# Altium schematic symbol library SMD Voltage Reference and Regulators.SchLib: 94 symbols
Pins are listed as number, name and electrical type; pins without a type are passive.

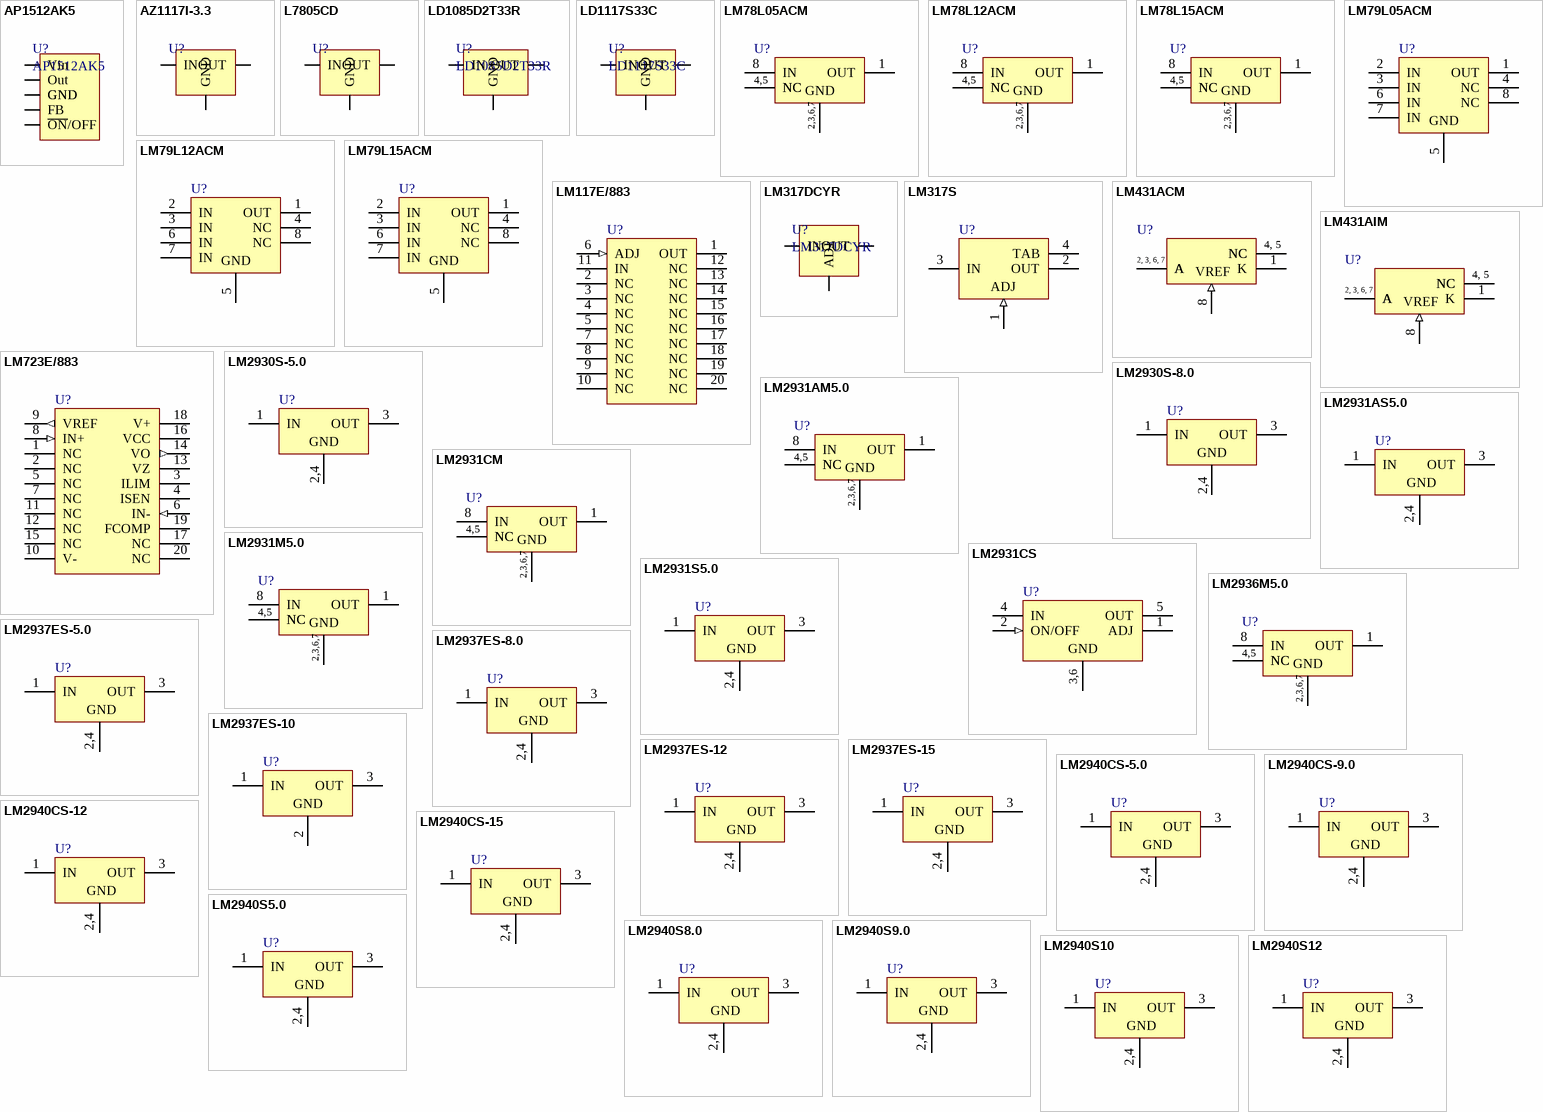
[diagram p0: symbols AP1512AK5 to LM2940S12]

## AP1512AK5
designator U?
3A, Step-Down SMPS Controller, Diodes
footprint TO263-5L (D2-PAK, 6-Pads, Body 9,6x10,5mm (max), IPC High Density)
pins: 1 Vin, 2 Out, 3 GND, 4 FB, 5 ~{ON}/OFF, 6 GND

## AZ1117I-3.3
designator U?
1.35A, 3.3V LDO Voltage Regulator
footprint SOT-223 (SOT-223/SC-73; 4 Leads; Body 6.7 x 7.3 mm, inc. leads (LxW max))
pins: 1 GND, 2 OUT, 3 IN

## L7805CD
designator U?
1.35A, 3.3V LDO Voltage Regulator
footprint DPAK-2 (DPAK 3 Leads (1 Cropped); Body 10.4 (inc. leads) x 6.7 mm (LxW max))
pins: 1 IN, 2 GND, 3 OUT

## LD1085D2T33R
designator U?
3A 3.3V LDO Voltage Regulator
footprint D2PAK (D2-PAK/TO-263-AB; 3 Leads (1 Cropped); Body 15.9 (inc. leads) x 10.4 mm (LxW max))
pins: 1 GND, 3 IN, 4 OUT

## LD1117S33C
designator U?
0.8A, 3.3V LDO Voltage Regulator
footprint SOT-223 (SOT-223/SC-73; 4 Leads; Body 6.7 x 7.3 mm, inc. leads (LxW max))
pins: 1 GND, 2 OUT, 3 IN, 4 OUT

## LM78L05ACM
designator U?
3-Terminal Positive Regulator; Manufacturer: National Semiconductor; Class: Power Management; SubClass: Voltage Regulator; Published: 15/04/2002; Publisher: Altium Hobart Technology Centre
footprint SO-G8
pins: 1 OUT (power), 2 GND (power), 3 GND (power), 4 NC, 5 NC, 6 GND (power), 7 GND (power), 8 IN (power)
text: 4,5; 2,3,6,7

## LM78L12ACM
designator U?
3-Terminal Positive Regulator; Manufacturer: National Semiconductor; Class: Power Management; SubClass: Voltage Regulator; Published: 15/04/2002; Publisher: Altium Hobart Technology Centre
footprint SO-G8
pins: 1 OUT (power), 2 GND (power), 3 GND (power), 4 NC, 5 NC, 6 GND (power), 7 GND (power), 8 IN (power)
text: 4,5; 2,3,6,7

## LM78L15ACM
designator U?
3-Terminal Positive Regulator; Manufacturer: National Semiconductor; Class: Power Management; SubClass: Voltage Regulator; Published: 15/04/2002; Publisher: Altium Hobart Technology Centre
footprint SO-G8
pins: 1 OUT (power), 2 GND (power), 3 GND (power), 4 NC, 5 NC, 6 GND (power), 7 GND (power), 8 IN (power)
text: 4,5; 2,3,6,7

## LM79L05ACM
designator U?
3-Terminal Negative Regulator; Manufacturer: National Semiconductor; Class: Power Management; SubClass: Voltage Regulator; Published: 15/04/2002; Publisher: Altium Hobart Technology Centre
footprint SO-G8
pins: 1 OUT (power), 2 IN (power), 3 IN (power), 4 NC, 5 GND (power), 6 IN (power), 7 IN (power), 8 NC

## LM79L12ACM
designator U?
3-Terminal Negative Regulator; Manufacturer: National Semiconductor; Class: Power Management; SubClass: Voltage Regulator; Published: 15/04/2002; Publisher: Altium Hobart Technology Centre
footprint SO-G8
pins: 1 OUT (power), 2 IN (power), 3 IN (power), 4 NC, 5 GND (power), 6 IN (power), 7 IN (power), 8 NC

## LM79L15ACM
designator U?
3-Terminal Negative Regulator; Manufacturer: National Semiconductor; Class: Power Management; SubClass: Voltage Regulator; Published: 15/04/2002; Publisher: Altium Hobart Technology Centre
footprint SO-G8
pins: 1 OUT (power), 2 IN (power), 3 IN (power), 4 NC, 5 GND (power), 6 IN (power), 7 IN (power), 8 NC

## LM117E/883
designator U?
3-Terminal Adjustable Regulator; Manufacturer: National Semiconductor; Class: Power Management; SubClass: Voltage Regulator; Published: 15/04/2002; Publisher: Altium Hobart Technology Centre
footprint QCC-N20/X.45
pins: 1 OUT (power), 2 NC, 3 NC, 4 NC, 5 NC, 6 ADJ (in), 7 NC, 8 NC, 9 NC, 10 NC, 11 IN (power), 12 NC, 13 NC, 14 NC, 15 NC, 16 NC, 17 NC, 18 NC, 19 NC, 20 NC

## LM317DCYR
designator U?
1.5A, 3-Terminal Adjustable Voltage Regulator, Texas Instruments
footprint SOT-223 (SOT-223/SC-73; 4 Leads; Body 6.7 x 7.3 mm, inc. leads (LxW max))
pins: 1 ADJ, 2 OUT, 3 IN, 4 OUT

## LM317S
designator U?
3-Terminal Adjustable Regulator; Manufacturer: National Semiconductor; Class: Power Management; SubClass: Voltage Regulator; Note: Tab is Output.; Published: 15/04/2002; Publisher: Altium Hobart Technology Centre
footprint SIP-G3/Y2.1
pins: 1 ADJ (in), 2 OUT (power), 3 IN (power), 4 TAB (power)

## LM431ACM
designator U?
Adjustable Precision Zener Shunt Regulator; Manufacturer: National Semiconductor; Class: Power Management; SubClass: Voltage Regulator; Published: 15/04/2002; Publisher: Altium Hobart Technology Centre
footprint SO-G8
pins: 1 K (power), 2 A (power), 3 A (power), 4 NC, 5 NC, 6 A (power), 7 A (power), 8 VREF (in)
text: 4, 5; 2, 3, 6, 7

## LM431AIM
designator U?
Adjustable Precision Zener Shunt Regulator; Manufacturer: National Semiconductor; Class: Power Management; SubClass: Voltage Regulator; Published: 15/04/2002; Publisher: Altium Hobart Technology Centre
footprint SO-G8
pins: 1 K (power), 2 A (power), 3 A (power), 4 NC, 5 NC, 6 A (power), 7 A (power), 8 VREF (in)
text: 4, 5; 2, 3, 6, 7

## LM723E/883
designator U?
Voltage Regulator; Manufacturer: National Semiconductor; Class: Power Management; Published: 15/04/2002; Publisher: Altium Hobart Technology Centre; SubClass: Voltage Regulator
footprint QCC-N20/X.45
pins: 1 NC, 2 NC, 3 ILIM, 4 ISEN, 5 NC, 6 IN- (in), 7 NC, 8 IN+ (in), 9 VREF (out), 10 V- (power), 11 NC, 12 NC, 13 VZ, 14 VO (out), 15 NC, 16 VCC (power), 17 NC, 18 V+ (power), 19 FCOMP, 20 NC

## LM2930S-5.0
designator U?
3-Terminal Positive Regulator; Manufacturer: National Semiconductor; Class: Power Management; SubClass: Voltage Regulator; Note: Tab is connected to GND; Published: 15/04/2002; Publisher: Altium Hobart Technology Centre
footprint SIP-G3/Y2.1
pins: 1 IN (power), 2 GND (power), 3 OUT (power), 4 GND (power)
text: 2,4

## LM2930S-8.0
designator U?
3-Terminal Positive Regulator; Manufacturer: National Semiconductor; Class: Power Management; SubClass: Voltage Regulator; Note: Tab is connected to GND; Published: 15/04/2002; Publisher: Altium Hobart Technology Centre
footprint SIP-G3/Y2.1
pins: 1 IN (power), 2 GND (power), 3 OUT (power), 4 GND (power)
text: 2,4

## LM2931AM5.0
designator U?
Series Low-Dropout Regulator; Manufacturer: National Semiconductor; Class: Power Management; SubClass: Voltage Regulator; Published: 15/04/2002; Publisher: Altium Hobart Technology Centre
footprint SO-G8
pins: 1 OUT (power), 2 GND (power), 3 GND (power), 4 NC, 5 NC, 6 GND (power), 7 GND (power), 8 IN (power)
text: 4,5; 2,3,6,7

## LM2931AS5.0
designator U?
Series Low-Dropout Regulator; Manufacturer: National Semiconductor; Class: Power Management; SubClass: Voltage Regulator; Note: Tab is GND; Published: 15/04/2002; Publisher: Altium Hobart Technology Centre
footprint SIP-G3/Y2.1
pins: 1 IN (power), 2 GND (power), 3 OUT (power), 4 GND (power)
text: 2,4

## LM2931CM
designator U?
Series Low-Dropout Regulator; Manufacturer: National Semiconductor; Class: Power Management; SubClass: Voltage Regulator; Published: 15/04/2002; Publisher: Altium Hobart Technology Centre
footprint SO-G8
pins: 1 OUT (power), 2 GND (power), 3 GND (power), 4 NC, 5 NC, 6 GND (power), 7 GND (power), 8 IN (power)
text: 4,5; 2,3,6,7

## LM2931CS
designator U?
Series Low-Dropout Regulator; Manufacturer: National Semiconductor; Class: Power Management; SubClass: Voltage Regulator; Note: Tab is GND; Published: 15/04/2002; Publisher: Altium Hobart Technology Centre
footprint SIP-G5/Y2.1
pins: 1 ADJ, 2 ON/OFF (in), 3 GND (power), 4 IN (power), 5 OUT (power), 6 GND (TAB) (power)
text: 3,6

## LM2931M5.0
designator U?
Series Low-Dropout Regulator; Manufacturer: National Semiconductor; Class: Power Management; SubClass: Voltage Regulator; Published: 15/04/2002; Publisher: Altium Hobart Technology Centre
footprint SO-G8
pins: 1 OUT (power), 2 GND (power), 3 GND (power), 4 NC, 5 NC, 6 GND (power), 7 GND (power), 8 IN (power)
text: 4,5; 2,3,6,7

## LM2931S5.0
designator U?
Series Low-Dropout Regulator; Manufacturer: National Semiconductor; Class: Power Management; SubClass: Voltage Regulator; Note: Tab is GND; Published: 15/04/2002; Publisher: Altium Hobart Technology Centre
footprint SIP-G3/Y2.1
pins: 1 IN (power), 2 GND (power), 3 OUT (power), 4 GND (power)
text: 2,4

## LM2936M5.0
designator U?
Ultra Low Quiescent Current 5V Regulator; Manufacturer: National Semiconductor; Class: Power Management; SubClass: Voltage Regulator; Published: 15/04/2002; Publisher: Altium Hobart Technology Centre
footprint SO-G8
pins: 1 OUT (power), 2 GND (power), 3 GND (power), 4 NC, 5 NC, 6 GND (power), 7 GND (power), 8 IN (power)
text: 4,5; 2,3,6,7

## LM2937ES-5.0
designator U?
500 mA Low-Dropout Regulator; Manufacturer: National Semiconductor; Class: Power Management; SubClass: Voltage Regulator; Note: Tab is GND; Published: 15/04/2002; Publisher: Altium Hobart Technology Centre
footprint SIP-G3/Y2.1
pins: 1 IN (power), 2 GND (power), 3 OUT (power), 4 GND (power)
text: 2,4

## LM2937ES-8.0
designator U?
500 mA Low-Dropout Regulator; Manufacturer: National Semiconductor; Class: Power Management; SubClass: Voltage Regulator; Note: Tab is GND; Published: 15/04/2002; Publisher: Altium Hobart Technology Centre
footprint SIP-G3/Y2.1
pins: 1 IN (power), 2 GND (power), 3 OUT (power), 4 GND (power)
text: 2,4

## LM2937ES-10
designator U?
500 mA Low-Dropout Regulator; Manufacturer: National Semiconductor; Class: Power Management; SubClass: Voltage Regulator; Note: Tab is connected to GND; Published: 15/04/2002; Publisher: Altium Hobart Technology Centre
footprint SIP-G3/Y2.1
pins: 1 IN (power), 2 GND (power), 3 OUT (power)

## LM2937ES-12
designator U?
500 mA Low-Dropout Regulator; Manufacturer: National Semiconductor; Class: Power Management; SubClass: Voltage Regulator; Note: Tab is GND; Published: 15/04/2002; Publisher: Altium Hobart Technology Centre
footprint SIP-G3/Y2.1
pins: 1 IN (power), 2 GND (power), 3 OUT (power), 4 GND (power)
text: 2,4

## LM2937ES-15
designator U?
500 mA Low-Dropout Regulator; Manufacturer: National Semiconductor; Class: Power Management; SubClass: Voltage Regulator; Note: Tab is GND; Published: 15/04/2002; Publisher: Altium Hobart Technology Centre
footprint SIP-G3/Y2.1
pins: 1 IN (power), 2 GND (power), 3 OUT (power), 4 GND (power)
text: 2,4

## LM2940CS-5.0
designator U?
1A Low-Dropout Regulator; Manufacturer: National Semiconductor; Class: Power Management; SubClass: Voltage Regulator; Note: Tab is GND; Published: 15/04/2002; Publisher: Altium Hobart Technology Centre
footprint SIP-G3/Y2.1
pins: 1 IN (power), 2 GND (power), 3 OUT (power), 4 GND (power)
text: 2,4

## LM2940CS-9.0
designator U?
1A Low-Dropout Regulator; Manufacturer: National Semiconductor; Class: Power Management; SubClass: Voltage Regulator; Note: Tab is GND; Published: 15/04/2002; Publisher: Altium Hobart Technology Centre
footprint SIP-G3/Y2.1
pins: 1 IN (power), 2 GND (power), 3 OUT (power), 4 GND (power)
text: 2,4

## LM2940CS-12
designator U?
1A Low-Dropout Regulator; Manufacturer: National Semiconductor; Class: Power Management; SubClass: Voltage Regulator; Note: Tab is GND; Published: 15/04/2002; Publisher: Altium Hobart Technology Centre
footprint SIP-G3/Y2.1
pins: 1 IN (power), 2 GND (power), 3 OUT (power), 4 GND (power)
text: 2,4

## LM2940CS-15
designator U?
1A Low-Dropout Regulator; Manufacturer: National Semiconductor; Class: Power Management; SubClass: Voltage Regulator; Note: Tab is GND; Published: 15/04/2002; Publisher: Altium Hobart Technology Centre
footprint SIP-G3/Y2.1
pins: 1 IN (power), 2 GND (power), 3 OUT (power), 4 GND (power)
text: 2,4

## LM2940S5.0
designator U?
1A Low-Dropout Regulator; Manufacturer: National Semiconductor; Class: Power Management; SubClass: Voltage Regulator; Note: Tab is GND; Published: 15/04/2002; Publisher: Altium Hobart Technology Centre
footprint SIP-G3/Y2.1
pins: 1 IN (power), 2 GND (power), 3 OUT (power), 4 GND (power)
text: 2,4

## LM2940S8.0
designator U?
1A Low-Dropout Regulator; Manufacturer: National Semiconductor; Class: Power Management; SubClass: Voltage Regulator; Note: Tab is GND; Published: 15/04/2002; Publisher: Altium Hobart Technology Centre
footprint SIP-G3/Y2.1
pins: 1 IN (power), 2 GND (power), 3 OUT (power), 4 GND (power)
text: 2,4

## LM2940S9.0
designator U?
1A Low-Dropout Regulator; Manufacturer: National Semiconductor; Class: Power Management; SubClass: Voltage Regulator; Note: Tab is GND; Published: 15/04/2002; Publisher: Altium Hobart Technology Centre
footprint SIP-G3/Y2.1
pins: 1 IN (power), 2 GND (power), 3 OUT (power), 4 GND (power)
text: 2,4

## LM2940S10
designator U?
1A Low-Dropout Regulator; Manufacturer: National Semiconductor; Class: Power Management; SubClass: Voltage Regulator; Note: Tab is GND; Published: 15/04/2002; Publisher: Altium Hobart Technology Centre
footprint SIP-G3/Y2.1
pins: 1 IN (power), 2 GND (power), 3 OUT (power), 4 GND (power)
text: 2,4

## LM2940S12
designator U?
1A Low-Dropout Regulator; Manufacturer: National Semiconductor; Class: Power Management; SubClass: Voltage Regulator; Note: Tab is GND; Published: 15/04/2002; Publisher: Altium Hobart Technology Centre
footprint SIP-G3/Y2.1
pins: 1 IN (power), 2 GND (power), 3 OUT (power), 4 GND (power)
text: 2,4

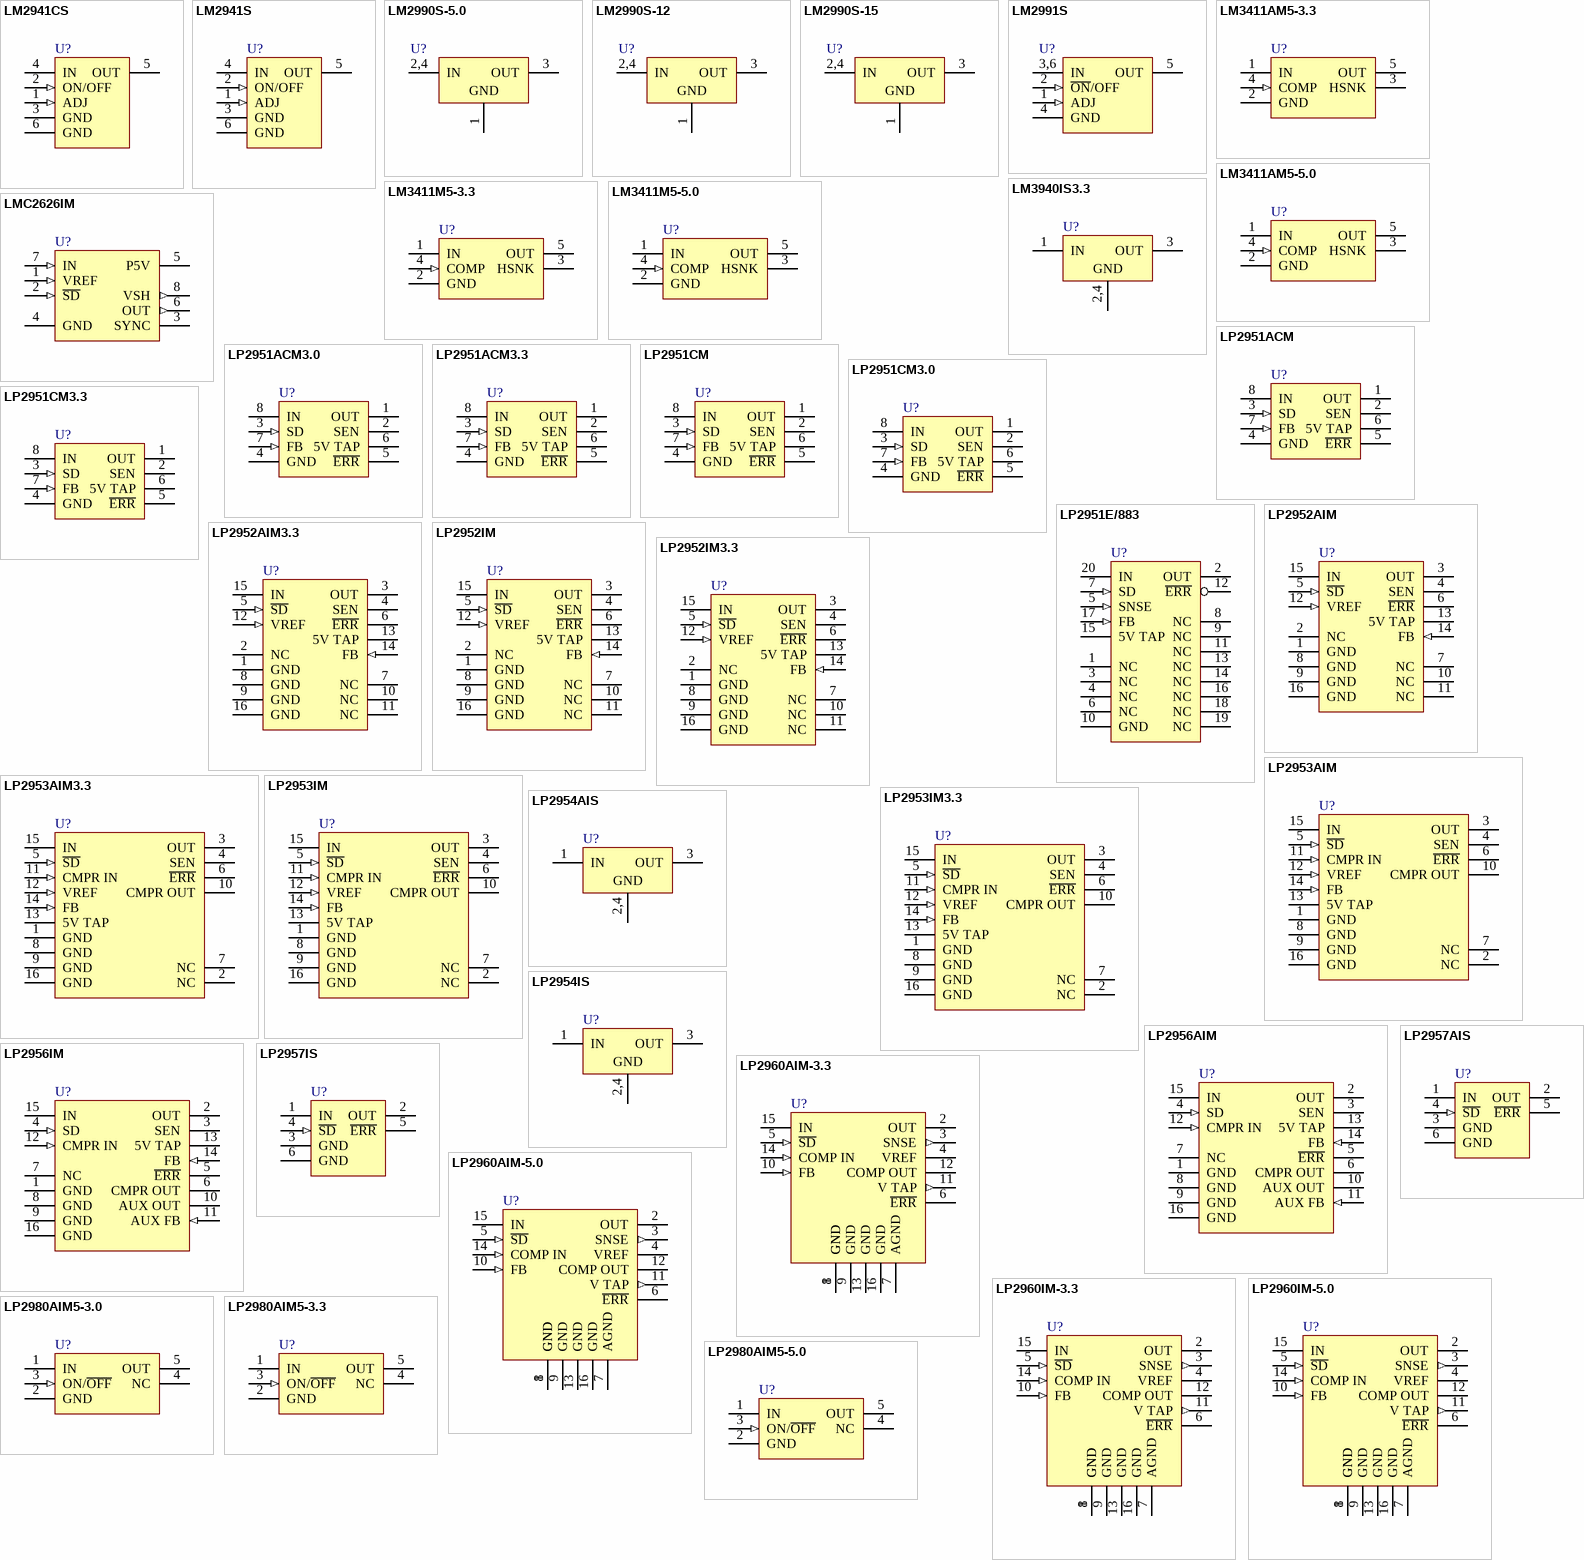
[diagram p1: symbols LM2941CS to LP2980AIM5-5.0]

## LM2941CS
designator U?
1A Dropout Adjustable Regulator; Manufacturer: National Semiconductor; Class: Power Management; SubClass: Voltage Regulator; Note: Tab is GND; Published: 15/04/2002; Publisher: Altium Hobart Technology Centre
footprint SIP-G5/Y2.1
pins: 1 ADJ (in), 2 ON/OFF (in), 3 GND (power), 4 IN (power), 5 OUT (power), 6 GND (power)

## LM2941S
designator U?
1A Dropout Adjustable Regulator; Manufacturer: National Semiconductor; Class: Power Management; SubClass: Voltage Regulator; Note: Tab is GND; Published: 15/04/2002; Publisher: Altium Hobart Technology Centre
footprint SIP-G5/Y2.1
pins: 1 ADJ (in), 2 ON/OFF (in), 3 GND (power), 4 IN (power), 5 OUT (power), 6 GND (power)

## LM2990S-5.0
designator U?
Negative Low-Dropout Regulator; Manufacturer: National Semiconductor; Class: Power Management; SubClass: Voltage Regulator; Note: Tab is Input; Published: 15/04/2002; Publisher: Altium Hobart Technology Centre
footprint SIP-G3/Y2.1
pins: 1 GND (power), 2 IN (power), 3 OUT (power), 4 IN (power)
text: 2,4

## LM2990S-12
designator U?
Negative Low-Dropout Regulator; Manufacturer: National Semiconductor; Class: Power Management; SubClass: Voltage Regulator; Note: Tab is Input; Published: 15/04/2002; Publisher: Altium Hobart Technology Centre
footprint SIP-G3/Y2.1
pins: 1 GND (power), 2 IN (power), 3 OUT (power), 4 IN (power)
text: 2,4

## LM2990S-15
designator U?
Negative Low-Dropout Regulator; Manufacturer: National Semiconductor; Class: Power Management; SubClass: Voltage Regulator; Note: Tab is Input; Published: 15/04/2002; Publisher: Altium Hobart Technology Centre
footprint SIP-G3/Y2.1
pins: 1 GND (power), 2 IN (power), 3 OUT (power), 4 IN (power)
text: 2,4

## LM2991S
designator U?
Negative Low-Dropout Adjustable Regulator; Manufacturer: National Semiconductor; Class: Power Management; SubClass: Voltage Regulator; Note: Tab is Input; Published: 15/04/2002; Publisher: Altium Hobart Technology Centre
footprint SIP-G5/Y2.1
pins: 1 ADJ (in), 2 ~{ON}/OFF (in), 3 IN (power), 4 GND (power), 5 OUT (power), 6 IN (power)
text: 3,6

## LM3411AM5-3.3
designator U?
Precision Secondary Regulator / Driver; Manufacturer: National Semiconductor; Class: Power Management; SubClass: Voltage Regulator; Note: Pin 3 NC, connect to board for heat transfer; Published: 15/04/2002; Publisher: Altium Hobart Technology Centre
footprint SO-G5/P.95
pins: 1 IN (power), 2 GND (power), 3 HSNK, 4 COMP (in), 5 OUT (power)

## LM3411AM5-5.0
designator U?
Precision Secondary Regulator / Driver; Manufacturer: National Semiconductor; Class: Power Management; SubClass: Voltage Regulator; Note: Pin 3 NC, connect to board for heat transfer; Published: 15/04/2002; Publisher: Altium Hobart Technology Centre
footprint SO-G5/P.95
pins: 1 IN (power), 2 GND (power), 3 HSNK, 4 COMP (in), 5 OUT (power)

## LM3411M5-3.3
designator U?
Precision Secondary Regulator / Driver; Manufacturer: National Semiconductor; Class: Power Management; SubClass: Voltage Regulator; Note: Pin 3 NC, connect to board for heat transfer; Published: 15/04/2002; Publisher: Altium Hobart Technology Centre
footprint SO-G5/P.95
pins: 1 IN (power), 2 GND (power), 3 HSNK, 4 COMP (in), 5 OUT (power)

## LM3411M5-5.0
designator U?
Precision Secondary Regulator / Driver; Manufacturer: National Semiconductor; Class: Power Management; SubClass: Voltage Regulator; Note: Pin 3 NC, connect to board for heat transfer; Published: 15/04/2002; Publisher: Altium Hobart Technology Centre
footprint SO-G5/P.95
pins: 1 IN (power), 2 GND (power), 3 HSNK, 4 COMP (in), 5 OUT (power)

## LM3940IS3.3
designator U?
1A Low-Dropout Regulator For 5V to 3.3V Conversion; Manufacturer: National Semiconductor; Class: Power Management; SubClass: Voltage Regulator; Note: Tab is GND; Published: 15/04/2002; Publisher: Altium Hobart Technology Centre
footprint SIP-G3/Y2.1
pins: 1 IN (power), 2 GND (power), 3 OUT (power), 4 GND (power)
text: 2,4

## LMC2626IM
designator U?
CMOS LDOR/Buffer Chip for Row Inversion Flat Panel Display Systems; Manufacturer: National Semiconductor; Class: Power Management; SubClass: Voltage Regulator; Published: 15/04/2002; Publisher: Altium Hobart Technology Centre
footprint SO-G8
pins: 1 VREF (in), 2 ~{SD} (in), 3 SYNC, 4 GND (power), 5 P5V (power), 6 OUT (out), 7 IN (in), 8 VSH (out)

## LP2951ACM
designator U?
Series of Adjustable Micropower Voltage Regulator; Manufacturer: National Semiconductor; Class: Power Management; Published: 15/04/2002; Publisher: Altium Hobart Technology Centre; SubClass: Voltage Regulator
footprint SO-G8
pins: 1 OUT (power), 2 SEN, 3 SD (in), 4 GND (power), 5 ~{ERR} (oc), 6 5V TAP, 7 FB (in), 8 IN (power)

## LP2951ACM3.0
designator U?
Series of Adjustable Micropower Voltage Regulator; Manufacturer: National Semiconductor; Class: Power Management; Published: 15/04/2002; Publisher: Altium Hobart Technology Centre; SubClass: Voltage Regulator
footprint SO-G8
pins: 1 OUT (power), 2 SEN, 3 SD (in), 4 GND (power), 5 ~{ERR} (oc), 6 5V TAP, 7 FB (in), 8 IN (power)

## LP2951ACM3.3
designator U?
Series of Adjustable Micropower Voltage Regulator; Manufacturer: National Semiconductor; Class: Power Management; Published: 15/04/2002; Publisher: Altium Hobart Technology Centre; SubClass: Voltage Regulator
footprint SO-G8
pins: 1 OUT (power), 2 SEN, 3 SD (in), 4 GND (power), 5 ~{ERR} (oc), 6 5V TAP, 7 FB (in), 8 IN (power)

## LP2951CM
designator U?
Series of Adjustable Micropower Voltage Regulator; Manufacturer: National Semiconductor; Class: Power Management; Published: 15/04/2002; Publisher: Altium Hobart Technology Centre; SubClass: Voltage Regulator
footprint SO-G8
pins: 1 OUT (power), 2 SEN, 3 SD (in), 4 GND (power), 5 ~{ERR} (oc), 6 5V TAP, 7 FB (in), 8 IN (power)

## LP2951CM3.0
designator U?
Series of Adjustable Micropower Voltage Regulator; Manufacturer: National Semiconductor; Class: Power Management; Published: 15/04/2002; Publisher: Altium Hobart Technology Centre; SubClass: Voltage Regulator
footprint SO-G8
pins: 1 OUT (power), 2 SEN, 3 SD (in), 4 GND (power), 5 ~{ERR} (oc), 6 5V TAP, 7 FB (in), 8 IN (power)

## LP2951CM3.3
designator U?
Series of Adjustable Micropower Voltage Regulator; Manufacturer: National Semiconductor; Class: Power Management; Published: 15/04/2002; Publisher: Altium Hobart Technology Centre; SubClass: Voltage Regulator
footprint SO-G8
pins: 1 OUT (power), 2 SEN, 3 SD (in), 4 GND (power), 5 ~{ERR} (oc), 6 5V TAP, 7 FB (in), 8 IN (power)

## LP2951E/883
designator U?
Series of Adjustable Micropower Voltage Regulator; Manufacturer: National Semiconductor; Class: Power Management; Published: 15/04/2002; Publisher: Altium Hobart Technology Centre; SubClass: Voltage Regulator
footprint QCC-N20/X.45
pins: 1 NC, 2 OUT (power), 3 NC, 4 NC, 5 SNSE (in), 6 NC, 7 SD (in), 8 NC, 9 NC, 10 GND (power), 11 NC, 12 ~{ERR} (oc), 13 NC, 14 NC, 15 5V TAP, 16 NC, 17 FB (in), 18 NC, 19 NC, 20 IN (power)

## LP2952AIM
designator U?
Adjustable Micropower Low-Dropout Voltage Regulator; Manufacturer: National Semiconductor; Class: Power Management; Published: 15/04/2002; Publisher: Altium Hobart Technology Centre; SubClass: Voltage Regulator
footprint SO-G16/E2
pins: 1 GND (power), 2 NC, 3 OUT (power), 4 SEN, 5 ~{SD} (in), 6 ~{ERR} (oc), 7 NC, 8 GND (power), 9 GND (power), 10 NC, 11 NC, 12 VREF (in), 13 5V TAP, 14 FB (in), 15 IN (power), 16 GND (power)

## LP2952AIM3.3
designator U?
Adjustable Micropower Low-Dropout Voltage Regulator; Manufacturer: National Semiconductor; Class: Power Management; Published: 15/04/2002; Publisher: Altium Hobart Technology Centre; SubClass: Voltage Regulator
footprint SO-G16/E2
pins: 1 GND (power), 2 NC, 3 OUT (power), 4 SEN, 5 ~{SD} (in), 6 ~{ERR} (oc), 7 NC, 8 GND (power), 9 GND (power), 10 NC, 11 NC, 12 VREF (in), 13 5V TAP, 14 FB (in), 15 IN (power), 16 GND (power)

## LP2952IM
designator U?
Adjustable Micropower Low-Dropout Voltage Regulator; Manufacturer: National Semiconductor; Class: Power Management; Published: 15/04/2002; Publisher: Altium Hobart Technology Centre; SubClass: Voltage Regulator
footprint SO-G16/E2
pins: 1 GND (power), 2 NC, 3 OUT (power), 4 SEN, 5 ~{SD} (in), 6 ~{ERR} (oc), 7 NC, 8 GND (power), 9 GND (power), 10 NC, 11 NC, 12 VREF (in), 13 5V TAP, 14 FB (in), 15 IN (power), 16 GND (power)

## LP2952IM3.3
designator U?
Adjustable Micropower Low-Dropout Voltage Regulator; Manufacturer: National Semiconductor; Class: Power Management; Published: 15/04/2002; Publisher: Altium Hobart Technology Centre; SubClass: Voltage Regulator
footprint SO-G16/E2
pins: 1 GND (power), 2 NC, 3 OUT (power), 4 SEN, 5 ~{SD} (in), 6 ~{ERR} (oc), 7 NC, 8 GND (power), 9 GND (power), 10 NC, 11 NC, 12 VREF (in), 13 5V TAP, 14 FB (in), 15 IN (power), 16 GND (power)

## LP2953AIM
designator U?
Adjustable Micropower Low-Dropout Voltage Regulator; Manufacturer: National Semiconductor; Class: Power Management; Published: 15/04/2002; Publisher: Altium Hobart Technology Centre; SubClass: Voltage Regulator
footprint SO-G16/E2
pins: 1 GND (power), 2 NC, 3 OUT (power), 4 SEN, 5 ~{SD} (in), 6 ~{ERR} (oc), 7 NC, 8 GND (power), 9 GND (power), 10 CMPR OUT (oc), 11 CMPR IN (in), 12 VREF (in), 13 5V TAP, 14 FB (in), 15 IN (power), 16 GND (power)

## LP2953AIM3.3
designator U?
Adjustable Micropower Low-Dropout Voltage Regulator; Manufacturer: National Semiconductor; Class: Power Management; Published: 15/04/2002; Publisher: Altium Hobart Technology Centre; SubClass: Voltage Regulator
footprint SO-G16/E2
pins: 1 GND (power), 2 NC, 3 OUT (power), 4 SEN, 5 ~{SD} (in), 6 ~{ERR} (oc), 7 NC, 8 GND (power), 9 GND (power), 10 CMPR OUT (oc), 11 CMPR IN (in), 12 VREF (in), 13 5V TAP, 14 FB (in), 15 IN (power), 16 GND (power)

## LP2953IM
designator U?
Adjustable Micropower Low-Dropout Voltage Regulator; Manufacturer: National Semiconductor; Class: Power Management; Published: 15/04/2002; Publisher: Altium Hobart Technology Centre; SubClass: Voltage Regulator
footprint SO-G16/E2
pins: 1 GND (power), 2 NC, 3 OUT (power), 4 SEN, 5 ~{SD} (in), 6 ~{ERR} (oc), 7 NC, 8 GND (power), 9 GND (power), 10 CMPR OUT (oc), 11 CMPR IN (in), 12 VREF (in), 13 5V TAP, 14 FB (in), 15 IN (power), 16 GND (power)

## LP2953IM3.3
designator U?
Adjustable Micropower Low-Dropout Voltage Regulator; Manufacturer: National Semiconductor; Class: Power Management; Published: 15/04/2002; Publisher: Altium Hobart Technology Centre; SubClass: Voltage Regulator
footprint SO-G16/E2
pins: 1 GND (power), 2 NC, 3 OUT (power), 4 SEN, 5 ~{SD} (in), 6 ~{ERR} (oc), 7 NC, 8 GND (power), 9 GND (power), 10 CMPR OUT (oc), 11 CMPR IN (in), 12 VREF (in), 13 5V TAP, 14 FB (in), 15 IN (power), 16 GND (power)

## LP2954AIS
designator U?
5V and Adjustable Micropower Low-Dropout Voltage Regulator; Manufacturer: National Semiconductor; Class: Power Management; Note: Tab is GND; Published: 15/04/2002; Publisher: Altium Hobart Technology Centre; SubClass: Voltage Regulator
footprint SIP-G3/Y2.1
pins: 1 IN (power), 2 GND (power), 3 OUT (power), 4 GND (power)
text: 2,4

## LP2954IS
designator U?
5V and Adjustable Micropower Low-Dropout Voltage Regulator; Manufacturer: National Semiconductor; Class: Power Management; Note: Tab is GND; Published: 15/04/2002; Publisher: Altium Hobart Technology Centre; SubClass: Voltage Regulator
footprint SIP-G3/Y2.1
pins: 1 IN (power), 2 GND (power), 3 OUT (power), 4 GND (power)
text: 2,4

## LP2956AIM
designator U?
Dual Micropower Low-Dropout Voltage Regulator; Manufacturer: National Semiconductor; Class: Power Management; Published: 15/04/2002; Publisher: Altium Hobart Technology Centre; SubClass: Voltage Regulator
footprint SO-G16/E2
pins: 1 GND (power), 2 OUT (power), 3 SEN, 4 SD (in), 5 ~{ERR} (oc), 6 CMPR OUT (oc), 7 NC, 8 GND (power), 9 GND (power), 10 AUX OUT (power), 11 AUX FB (in), 12 CMPR IN (in), 13 5V TAP, 14 FB (in), 15 IN (power), 16 GND (power)

## LP2956IM
designator U?
Dual Micropower Low-Dropout Voltage Regulator; Manufacturer: National Semiconductor; Class: Power Management; Published: 15/04/2002; Publisher: Altium Hobart Technology Centre; SubClass: Voltage Regulator
footprint SO-G16/E2
pins: 1 GND (power), 2 OUT (power), 3 SEN, 4 SD (in), 5 ~{ERR} (oc), 6 CMPR OUT (oc), 7 NC, 8 GND (power), 9 GND (power), 10 AUX OUT (power), 11 AUX FB (in), 12 CMPR IN (in), 13 5V TAP, 14 FB (in), 15 IN (power), 16 GND (power)

## LP2957AIS
designator U?
5V Low-Dropout Regulator for Microprocessor Application; Manufacturer: National Semiconductor; Class: Power Management; SubClass: Voltage Regulator; Note: Tab is GND; Published: 15/04/2002; Publisher: Altium Hobart Technology Centre
footprint SIP-G5/Y2.1
pins: 1 IN (power), 2 OUT (power), 3 GND (power), 4 ~{SD} (in), 5 ~{ERR} (oc), 6 GND (power)

## LP2957IS
designator U?
5V Low-Dropout Regulator for Microprocessor Application; Manufacturer: National Semiconductor; Class: Power Management; SubClass: Voltage Regulator; Note: Tab is GND; Published: 15/04/2002; Publisher: Altium Hobart Technology Centre
footprint SIP-G5/Y2.1
pins: 1 IN (power), 2 OUT (power), 3 GND (power), 4 ~{SD} (in), 5 ~{ERR} (oc), 6 GND (power)

## LP2960AIM-3.3
designator U?
Adjustable Micropower 0.5 Low-Dropout Regulator; Manufacturer: National Semiconductor; Class: Power Management; SubClass: Voltage Regulator; Published: 15/04/2002; Publisher: Altium Hobart Technology Centre
footprint SO-G16/E2
pins: 1 GND (power), 2 OUT (power), 3 SNSE (out), 4 VREF, 5 ~{SD} (in), 6 ~{ERR} (oc), 7 AGND (power), 8 GND (power), 9 GND (power), 10 FB (in), 11 V TAP (out), 12 COMP OUT (oc), 13 GND (power), 14 COMP IN (in), 15 IN (power), 16 GND (power)

## LP2960AIM-5.0
designator U?
Adjustable Micropower 0.5 Low-Dropout Regulator; Manufacturer: National Semiconductor; Class: Power Management; SubClass: Voltage Regulator; Published: 15/04/2002; Publisher: Altium Hobart Technology Centre
footprint SO-G16/E2
pins: 1 GND (power), 2 OUT (power), 3 SNSE (out), 4 VREF, 5 ~{SD} (in), 6 ~{ERR} (oc), 7 AGND (power), 8 GND (power), 9 GND (power), 10 FB (in), 11 V TAP (out), 12 COMP OUT (oc), 13 GND (power), 14 COMP IN (in), 15 IN (power), 16 GND (power)

## LP2960IM-3.3
designator U?
Adjustable Micropower 0.5 Low-Dropout Regulator; Manufacturer: National Semiconductor; Class: Power Management; SubClass: Voltage Regulator; Published: 15/04/2002; Publisher: Altium Hobart Technology Centre
footprint SO-G16/E2
pins: 1 GND (power), 2 OUT (power), 3 SNSE (out), 4 VREF, 5 ~{SD} (in), 6 ~{ERR} (oc), 7 AGND (power), 8 GND (power), 9 GND (power), 10 FB (in), 11 V TAP (out), 12 COMP OUT (oc), 13 GND (power), 14 COMP IN (in), 15 IN (power), 16 GND (power)

## LP2960IM-5.0
designator U?
Adjustable Micropower 0.5 Low-Dropout Regulator; Manufacturer: National Semiconductor; Class: Power Management; SubClass: Voltage Regulator; Published: 15/04/2002; Publisher: Altium Hobart Technology Centre
footprint SO-G16/E2
pins: 1 GND (power), 2 OUT (power), 3 SNSE (out), 4 VREF, 5 ~{SD} (in), 6 ~{ERR} (oc), 7 AGND (power), 8 GND (power), 9 GND (power), 10 FB (in), 11 V TAP (out), 12 COMP OUT (oc), 13 GND (power), 14 COMP IN (in), 15 IN (power), 16 GND (power)

## LP2980AIM5-3.0
designator U?
Micropower SOT, 50 mA Ultra Low-Dropout Regulator; Manufacturer: National Semiconductor; Class: Power Management; SubClass: Voltage Regulator; Published: 15/04/2002; Publisher: Altium Hobart Technology Centre
footprint SO-G5/P.95
pins: 1 IN (power), 2 GND (power), 3 ON/~{OFF} (in), 4 NC, 5 OUT (power)

## LP2980AIM5-3.3
designator U?
Micropower SOT, 50 mA Ultra Low-Dropout Regulator; Manufacturer: National Semiconductor; Class: Power Management; SubClass: Voltage Regulator; Published: 15/04/2002; Publisher: Altium Hobart Technology Centre
footprint SO-G5/P.95
pins: 1 IN (power), 2 GND (power), 3 ON/~{OFF} (in), 4 NC, 5 OUT (power)

## LP2980AIM5-5.0
designator U?
Micropower SOT, 50 mA Ultra Low-Dropout Regulator; Manufacturer: National Semiconductor; Class: Power Management; SubClass: Voltage Regulator; Published: 15/04/2002; Publisher: Altium Hobart Technology Centre
footprint SO-G5/P.95
pins: 1 IN (power), 2 GND (power), 3 ON/~{OFF} (in), 4 NC, 5 OUT (power)

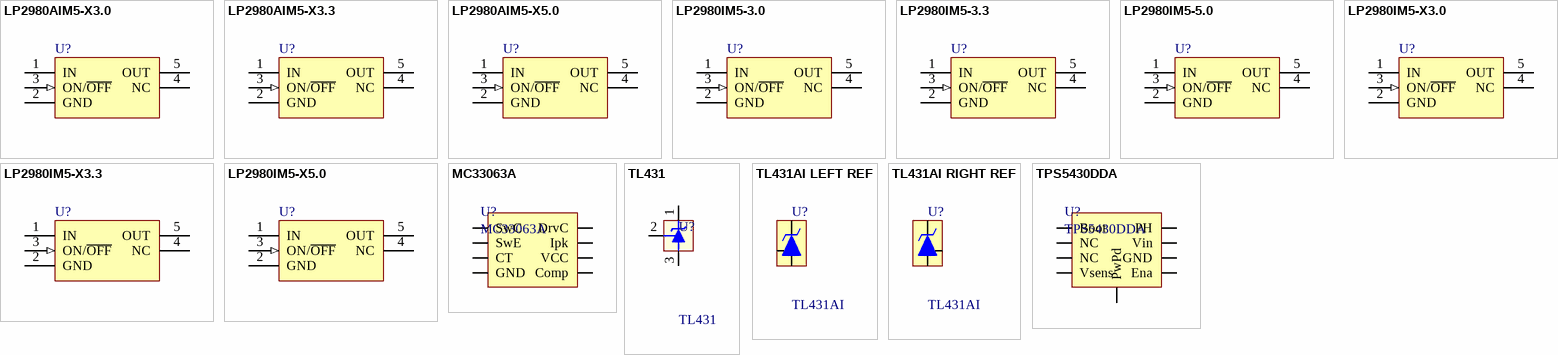
[diagram p2: symbols LP2980AIM5-X3.0 to TPS5430DDA]

## LP2980AIM5-X3.0
designator U?
Micropower SOT, 50 mA Ultra Low-Dropout Regulator; Manufacturer: National Semiconductor; Class: Power Management; SubClass: Voltage Regulator; Published: 15/04/2002; Publisher: Altium Hobart Technology Centre
footprint SO-G5/P.95
pins: 1 IN (power), 2 GND (power), 3 ON/~{OFF} (in), 4 NC, 5 OUT (power)

## LP2980AIM5-X3.3
designator U?
Micropower SOT, 50 mA Ultra Low-Dropout Regulator; Manufacturer: National Semiconductor; Class: Power Management; SubClass: Voltage Regulator; Published: 15/04/2002; Publisher: Altium Hobart Technology Centre
footprint SO-G5/P.95
pins: 1 IN (power), 2 GND (power), 3 ON/~{OFF} (in), 4 NC, 5 OUT (power)

## LP2980AIM5-X5.0
designator U?
Micropower SOT, 50 mA Ultra Low-Dropout Regulator; Manufacturer: National Semiconductor; Class: Power Management; SubClass: Voltage Regulator; Published: 15/04/2002; Publisher: Altium Hobart Technology Centre
footprint SO-G5/P.95
pins: 1 IN (power), 2 GND (power), 3 ON/~{OFF} (in), 4 NC, 5 OUT (power)

## LP2980IM5-3.0
designator U?
Micropower SOT, 50 mA Ultra Low-Dropout Regulator; Manufacturer: National Semiconductor; Class: Power Management; SubClass: Voltage Regulator; Published: 15/04/2002; Publisher: Altium Hobart Technology Centre
footprint SO-G5/P.95
pins: 1 IN (power), 2 GND (power), 3 ON/~{OFF} (in), 4 NC, 5 OUT (power)

## LP2980IM5-3.3
designator U?
Micropower SOT, 50 mA Ultra Low-Dropout Regulator; Manufacturer: National Semiconductor; Class: Power Management; SubClass: Voltage Regulator; Published: 15/04/2002; Publisher: Altium Hobart Technology Centre
footprint SO-G5/P.95
pins: 1 IN (power), 2 GND (power), 3 ON/~{OFF} (in), 4 NC, 5 OUT (power)

## LP2980IM5-5.0
designator U?
Micropower SOT, 50 mA Ultra Low-Dropout Regulator; Manufacturer: National Semiconductor; Class: Power Management; SubClass: Voltage Regulator; Published: 15/04/2002; Publisher: Altium Hobart Technology Centre
footprint SO-G5/P.95
pins: 1 IN (power), 2 GND (power), 3 ON/~{OFF} (in), 4 NC, 5 OUT (power)

## LP2980IM5-X3.0
designator U?
Micropower SOT, 50 mA Ultra Low-Dropout Regulator; Manufacturer: National Semiconductor; Class: Power Management; SubClass: Voltage Regulator; Published: 15/04/2002; Publisher: Altium Hobart Technology Centre
footprint SO-G5/P.95
pins: 1 IN (power), 2 GND (power), 3 ON/~{OFF} (in), 4 NC, 5 OUT (power)

## LP2980IM5-X3.3
designator U?
Micropower SOT, 50 mA Ultra Low-Dropout Regulator; Manufacturer: National Semiconductor; Class: Power Management; SubClass: Voltage Regulator; Published: 15/04/2002; Publisher: Altium Hobart Technology Centre
footprint SO-G5/P.95
pins: 1 IN (power), 2 GND (power), 3 ON/~{OFF} (in), 4 NC, 5 OUT (power)

## LP2980IM5-X5.0
designator U?
Micropower SOT, 50 mA Ultra Low-Dropout Regulator; Manufacturer: National Semiconductor; Class: Power Management; SubClass: Voltage Regulator; Published: 15/04/2002; Publisher: Altium Hobart Technology Centre
footprint SO-G5/P.95
pins: 1 IN (power), 2 GND (power), 3 ON/~{OFF} (in), 4 NC, 5 OUT (power)

## MC33063A
designator U?
1.5 A, Step/Up/Down Inverting Switching Regulator
footprint SOIC-8 (SOIC, 8-Leads, Body 5,0x4,0mm (max), Pitch 1,27mm, IPC Medium Density)
pins: 1 SwC, 2 SwE, 3 CT, 4 GND, 5 Comp, 6 VCC, 7 Ipk, 8 DrvC

## TL431
designator U?
Precision Programmable Reference
footprint SOT23-3 (SOT23, 3-Leads, Body 2.9x1.3mm, Pitch 0.95mm, Lead Span 2.3mm - Reverse Pinning, IPC High Density)
pins: 1 K, 2 REF, 3 A

## TL431AI LEFT REF
designator U?, comment TL431AI
Adjustable Precision Shunt Regulator - DBZ Case
footprint SOT-23 (SOT23, 3-Leads, Body 3,0x2,6mm (max), Pitch 0,95mm, IPC High Density)
pins: 1 K, 2 REF, 3 A

## TL431AI RIGHT REF
designator U?, comment TL431AI
Adjustable Precision Shunt Regulator - DBZ Case
footprint SOT-23 (SOT23, 3-Leads, Body 3,0x2,6mm (max), Pitch 0,95mm, IPC High Density)
pins: 1 K, 2 REF, 3 A

## TPS5430DDA
designator U?
3A, Step-Down SWIFT Converter, Texas Instruments
footprint PSOIC-8 (SOIC, 8-Leads, Body 4.9x3.9mm, Pitch 1.27mm, IPC High Density)
pins: 1 Boot, 2 NC, 3 NC, 4 Vsens, 5 Ena, 6 GND, 7 Vin, 8 PH, 9 PwPd